# Altium integrated library Silicon Labs Audio.IntLib: 141 symbols (part 2 of 7)
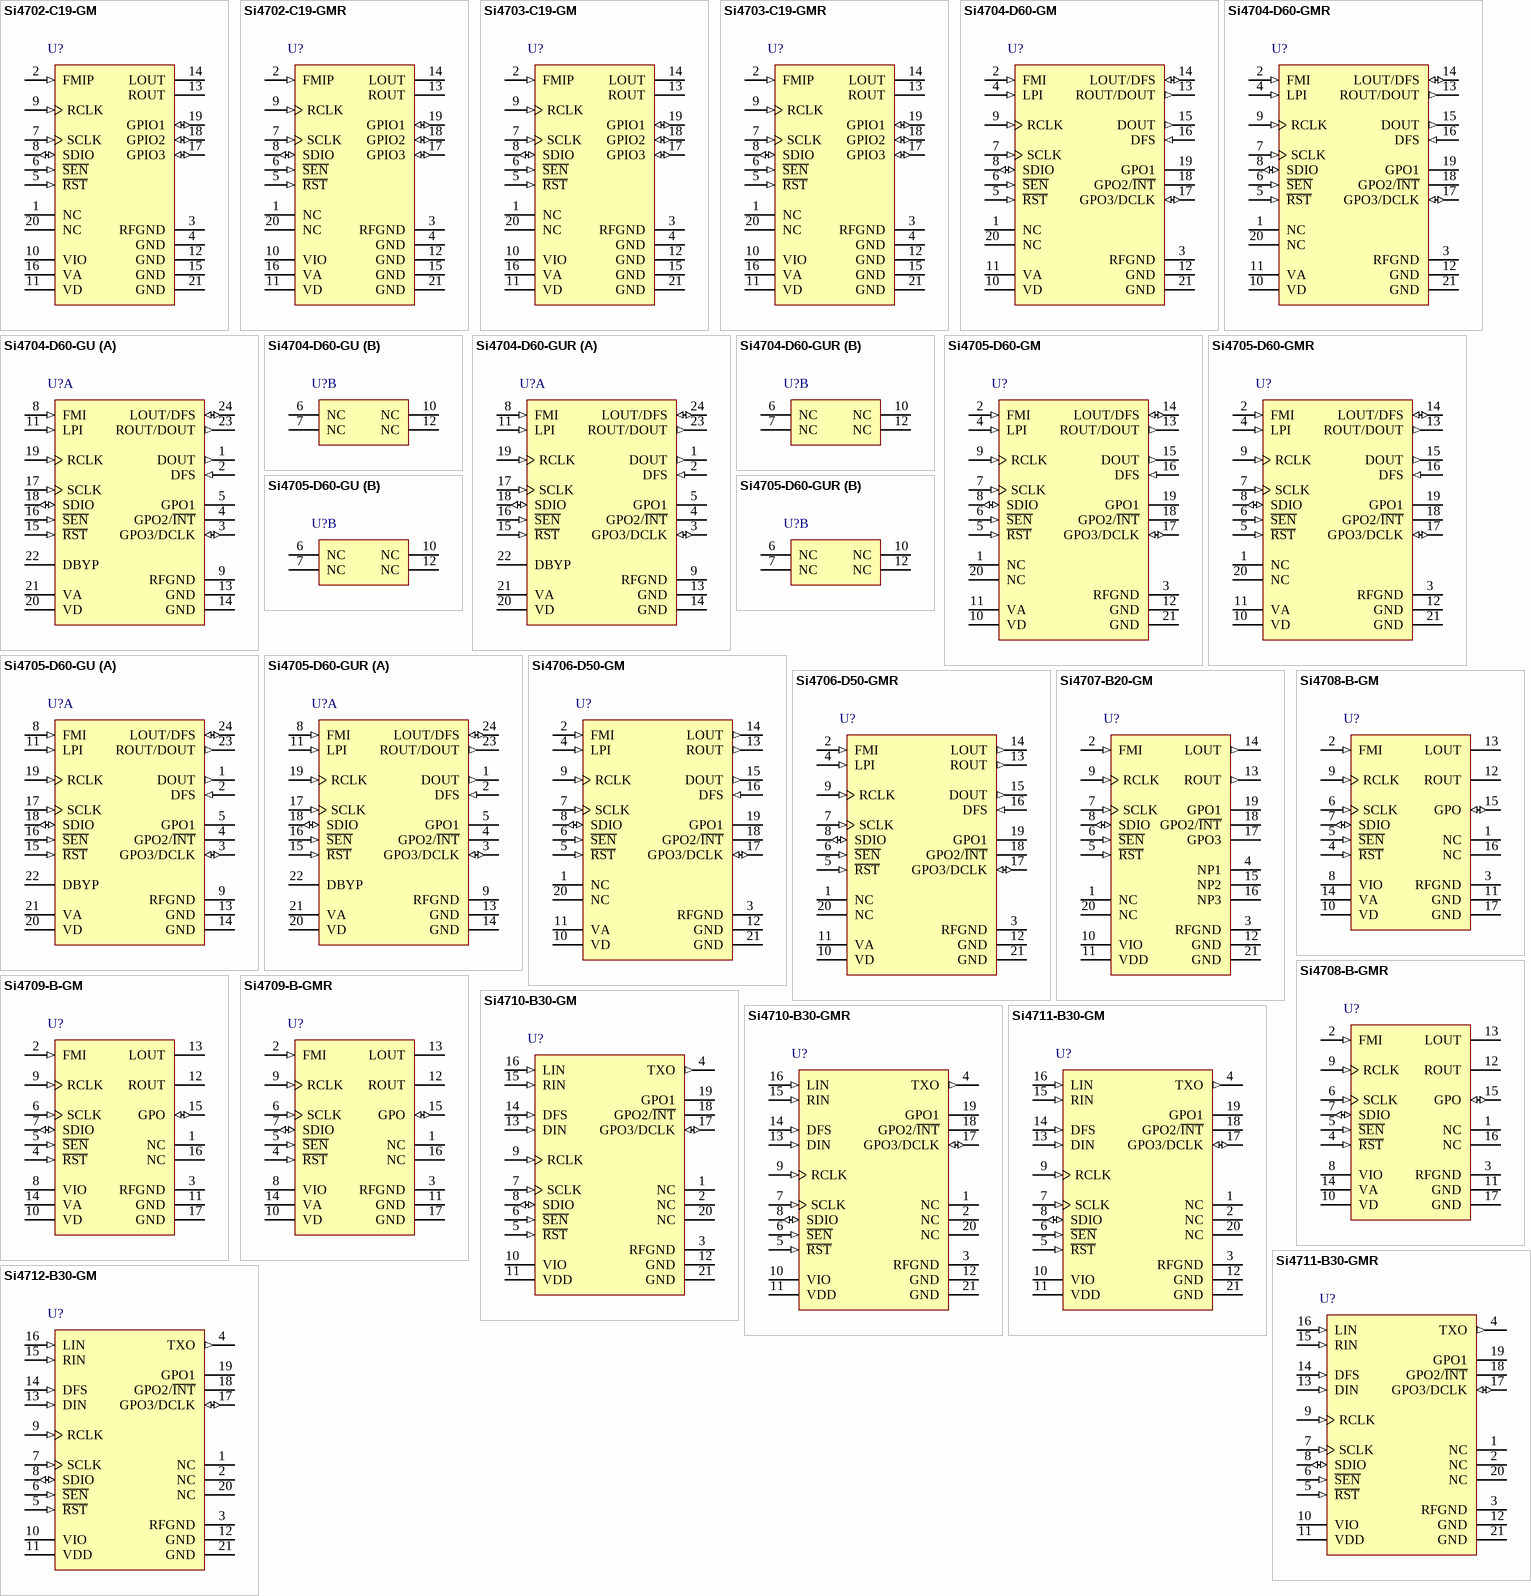
[diagram p8: symbols Si4702-C19-GM to Si4712-B30-GM]

## Si4712-B30-GM
designator U?
FM Radio Transmitter with Receive Power Scan, -20 to 85 degC, 20-pin QFN, Tray; Manufacturer: Silicon Labs; PartNumber: Si4712-B30-GM; RDS Support: FALSE; Sub-Family: FM Transmitters; PackageReference: QFN-20; PackageDescription: 20-Pin Quad-Flat No-Leads Package, Body 3 x 3 mm, Pitch 0.5 mm; Supplier 1: Digi-Key; Supplier Part Number 1: SI4712-B30-GM-ND; Supplier 2: Mouser; Supplier Part Number 2: 634-SI4712-B30-GM; Packing: Tray; Mounting Technology: Surface Mount; Code_IPC: J-STD-020; ComponentLink1Description: Manufacturer URL; ComponentLink1URL: http://www.silabs.com/; ComponentLink2Description: Datasheet; ComponentLink2URL: http://www.silabs.com/Support Documents/TechnicalDocs/Si4712-13-short.pdf; ComponentLink3Description: Package Specification; ComponentLink3URL: http://www.silabs.com/Support%20Documents/TechnicalDocs/C8051F99x.pdf
footprint SLAB-QFN-20-1700x1700TP_V (QFN, 20-Leads, Body 3x3mm, Pitch 0.5mm, Thermal Pad 1.7x1.7mm)
pins: 1 NC "No connect. Leave floating.", 2 NC "No connect. Leave floating.", 3 RFGND (power) "RF ground. Connect to ground plane on PCB.", 4 TXO (out) "FM transmit output connection to transmit antenna", 5 ~{RST} (in) "Device reset (active low) input.", 6 ~{SEN} (in) "Serial enable input (active low).", 7 SCLK (in) "Serial clock input.", 8 SDIO (io) "Serial data input/output.", 9 RCLK (in) "External reference oscillator input.", 10 VIO (power) "I/O supply voltage.", 11 VDD (power) "Supply voltage. May be connected directly to battery.", 12 GND (power) "Ground. Connect to ground plane on PCB.", 13 DIN (in) "Digital input data.", 14 DFS (in) "Digital frame synchronization input.", 15 RIN (in) "Right audio line input.", 16 LIN (in) "Left audio line input.", 17 GPO3/DCLK (io) "General purpose output/digital bit synchronous clock input.", 18 GPO2/~{INT} (hiz) "General purpose output/interrupt request.", 19 GPO1 (hiz) "General purpose output.", 20 NC "No connect. Leave floating.", 21 GND (power) "Ground. Connect to ground plane on PCB."

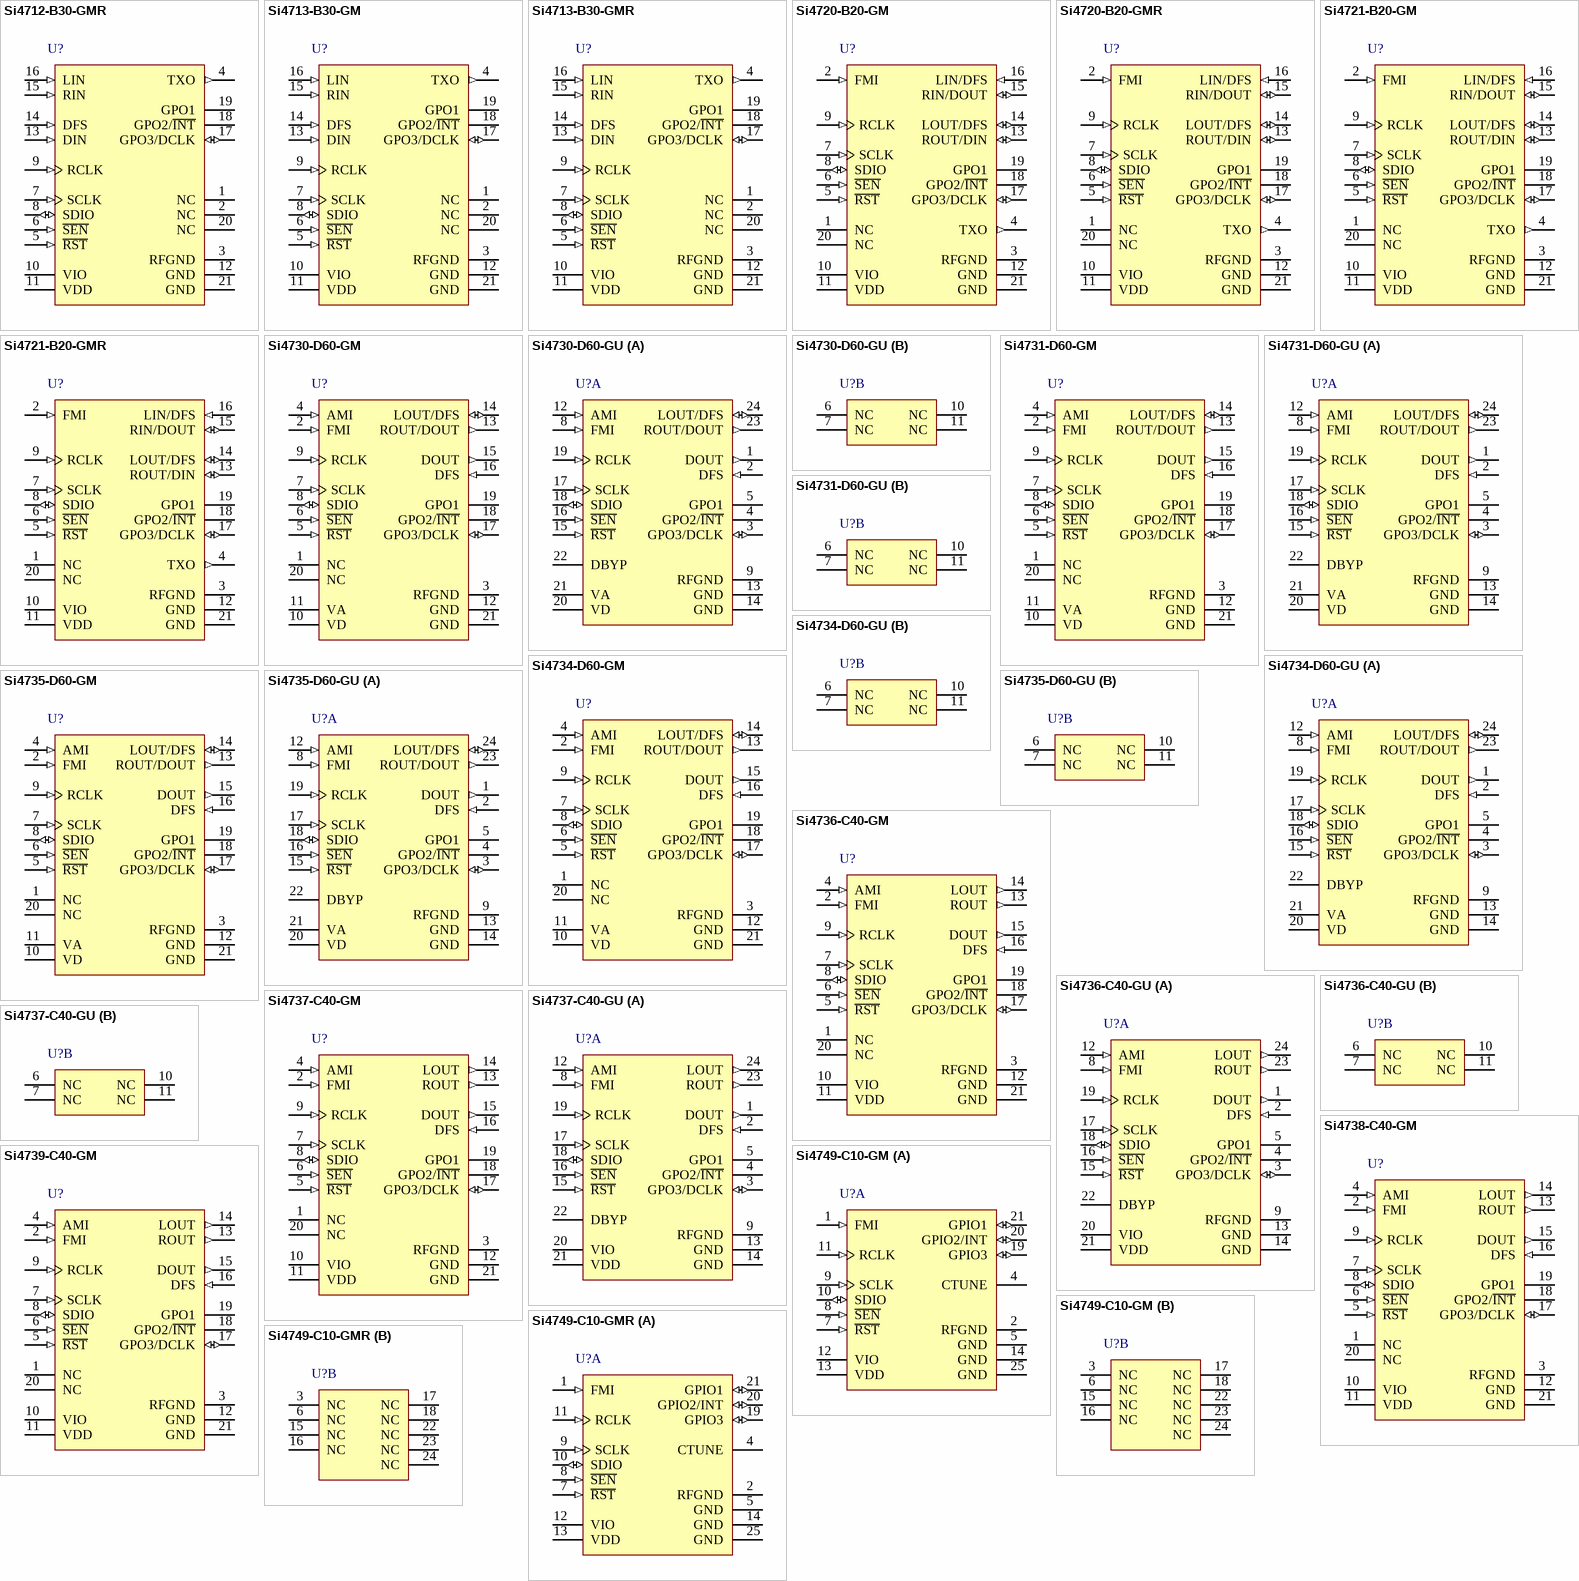
[diagram p1: symbols Si4712-B30-GMR to Si4749-C10-GMR]

## Si4712-B30-GMR
designator U?
FM Radio Transmitter with Receive Power Scan, -20 to 85 degC, 20-pin QFN, Tape and Reel; Manufacturer: Silicon Labs; PartNumber: Si4712-B30-GMR; RDS Support: FALSE; Sub-Family: FM Transmitters; PackageReference: QFN-20; PackageDescription: 20-Pin Quad-Flat No-Leads Package, Body 3 x 3 mm, Pitch 0.5 mm; Supplier 1: Digi-Key; Supplier Part Number 1: SI4712-B30-GMR-ND; Supplier 2: Mouser; Supplier Part Number 2: 634-SI4712-B30-GMR; Packing: Tape and Reel; Mounting Technology: Surface Mount; Code_IPC: J-STD-020; ComponentLink1Description: Manufacturer URL; ComponentLink1URL: http://www.silabs.com/; ComponentLink2Description: Datasheet; ComponentLink2URL: http://www.silabs.com/Support Documents/TechnicalDocs/Si4712-13-short.pdf; ComponentLink3Description: Package Specification; ComponentLink3URL: http://www.silabs.com/Support%20Documents/TechnicalDocs/C8051F99x.pdf
footprint SLAB-QFN-20-1700x1700TP_V (QFN, 20-Leads, Body 3x3mm, Pitch 0.5mm, Thermal Pad 1.7x1.7mm)
pins: 1 NC "No connect. Leave floating.", 2 NC "No connect. Leave floating.", 3 RFGND (power) "RF ground. Connect to ground plane on PCB.", 4 TXO (out) "FM transmit output connection to transmit antenna", 5 ~{RST} (in) "Device reset (active low) input.", 6 ~{SEN} (in) "Serial enable input (active low).", 7 SCLK (in) "Serial clock input.", 8 SDIO (io) "Serial data input/output.", 9 RCLK (in) "External reference oscillator input.", 10 VIO (power) "I/O supply voltage.", 11 VDD (power) "Supply voltage. May be connected directly to battery.", 12 GND (power) "Ground. Connect to ground plane on PCB.", 13 DIN (in) "Digital input data.", 14 DFS (in) "Digital frame synchronization input.", 15 RIN (in) "Right audio line input.", 16 LIN (in) "Left audio line input.", 17 GPO3/DCLK (io) "General purpose output/digital bit synchronous clock input.", 18 GPO2/~{INT} (hiz) "General purpose output/interrupt request.", 19 GPO1 (hiz) "General purpose output.", 20 NC "No connect. Leave floating.", 21 GND (power) "Ground. Connect to ground plane on PCB."

## Si4713-B30-GM
designator U?
FM Radio Transmitter with Receive Power Scan, -20 to 85 degC, 20-pin QFN, Tray; Manufacturer: Silicon Labs; PartNumber: Si4713-B30-GM; RDS Support: TRUE; Sub-Family: FM Transmitters; PackageReference: QFN-20; PackageDescription: 20-Pin Quad-Flat No-Leads Package, Body 3 x 3 mm, Pitch 0.5 mm; Supplier 1: Digi-Key; Supplier Part Number 1: 336-1742-ND; Supplier 2: Mouser; Supplier Part Number 2: 634-SI4713-B30-GM; Packing: Tray; Mounting Technology: Surface Mount; Code_IPC: J-STD-020; ComponentLink1Description: Manufacturer URL; ComponentLink1URL: http://www.silabs.com/; ComponentLink2Description: Datasheet; ComponentLink2URL: http://www.silabs.com/Support Documents/TechnicalDocs/Si4712-13-short.pdf; ComponentLink3Description: Package Specification; ComponentLink3URL: http://www.silabs.com/Support%20Documents/TechnicalDocs/C8051F99x.pdf
footprint SLAB-QFN-20-1700x1700TP_V (QFN, 20-Leads, Body 3x3mm, Pitch 0.5mm, Thermal Pad 1.7x1.7mm)
pins: 1 NC "No connect. Leave floating.", 2 NC "No connect. Leave floating.", 3 RFGND (power) "RF ground. Connect to ground plane on PCB.", 4 TXO (out) "FM transmit output connection to transmit antenna", 5 ~{RST} (in) "Device reset (active low) input.", 6 ~{SEN} (in) "Serial enable input (active low).", 7 SCLK (in) "Serial clock input.", 8 SDIO (io) "Serial data input/output.", 9 RCLK (in) "External reference oscillator input.", 10 VIO (power) "I/O supply voltage.", 11 VDD (power) "Supply voltage. May be connected directly to battery.", 12 GND (power) "Ground. Connect to ground plane on PCB.", 13 DIN (in) "Digital input data.", 14 DFS (in) "Digital frame synchronization input.", 15 RIN (in) "Right audio line input.", 16 LIN (in) "Left audio line input.", 17 GPO3/DCLK (io) "General purpose output/digital bit synchronous clock input.", 18 GPO2/~{INT} (hiz) "General purpose output/interrupt request.", 19 GPO1 (hiz) "General purpose output.", 20 NC "No connect. Leave floating.", 21 GND (power) "Ground. Connect to ground plane on PCB."

## Si4713-B30-GMR
designator U?
FM Radio Transmitter with Receive Power Scan, -20 to 85 degC, 20-pin QFN, Tape and Reel; Manufacturer: Silicon Labs; PartNumber: Si4713-B30-GMR; RDS Support: TRUE; Sub-Family: FM Transmitters; PackageReference: QFN-20; PackageDescription: 20-Pin Quad-Flat No-Leads Package, Body 3 x 3 mm, Pitch 0.5 mm; Supplier 1: Digi-Key; Supplier Part Number 1: SI4713-B30-GMR-ND; Supplier 2: Mouser; Supplier Part Number 2: 634-SI4713-B30-GMR; Packing: Tape and Reel; Mounting Technology: Surface Mount; Code_IPC: J-STD-020; ComponentLink1Description: Manufacturer URL; ComponentLink1URL: http://www.silabs.com/; ComponentLink2Description: Datasheet; ComponentLink2URL: http://www.silabs.com/Support Documents/TechnicalDocs/Si4712-13-short.pdf; ComponentLink3Description: Package Specification; ComponentLink3URL: http://www.silabs.com/Support%20Documents/TechnicalDocs/C8051F99x.pdf
footprint SLAB-QFN-20-1700x1700TP_V (QFN, 20-Leads, Body 3x3mm, Pitch 0.5mm, Thermal Pad 1.7x1.7mm)
pins: 1 NC "No connect. Leave floating.", 2 NC "No connect. Leave floating.", 3 RFGND (power) "RF ground. Connect to ground plane on PCB.", 4 TXO (out) "FM transmit output connection to transmit antenna", 5 ~{RST} (in) "Device reset (active low) input.", 6 ~{SEN} (in) "Serial enable input (active low).", 7 SCLK (in) "Serial clock input.", 8 SDIO (io) "Serial data input/output.", 9 RCLK (in) "External reference oscillator input.", 10 VIO (power) "I/O supply voltage.", 11 VDD (power) "Supply voltage. May be connected directly to battery.", 12 GND (power) "Ground. Connect to ground plane on PCB.", 13 DIN (in) "Digital input data.", 14 DFS (in) "Digital frame synchronization input.", 15 RIN (in) "Right audio line input.", 16 LIN (in) "Left audio line input.", 17 GPO3/DCLK (io) "General purpose output/digital bit synchronous clock input.", 18 GPO2/~{INT} (hiz) "General purpose output/interrupt request.", 19 GPO1 (hiz) "General purpose output.", 20 NC "No connect. Leave floating.", 21 GND (power) "Ground. Connect to ground plane on PCB."

## Si4720-B20-GM
designator U?
Broadcast FM Radio Transceiver for Portable Applications, 20-pin QFN, Tray; Manufacturer: Silicon Labs; PartNumber: Si4720-B20-GM; RDS Support: FALSE; Sub-Family: FM Transceivers; PackageReference: QFN-20; PackageDescription: 20-Pin Quad-Flat No-Leads Package, Body 3 x 3 mm, Pitch 0.5 mm; Supplier 1: Digi-Key; Supplier Part Number 1: SI4720-B20-GM-ND; Supplier 2: Mouser; Supplier Part Number 2: 634-SI4720-B20-GM; Packing: Tray; Mounting Technology: Surface Mount; Code_IPC: J-STD-020; ComponentLink1Description: Manufacturer URL; ComponentLink1URL: http://www.silabs.com/; ComponentLink2Description: Datasheet; ComponentLink2URL: http://www.silabs.com/Support%20Documents/TechnicalDocs/Si4720-21-short.pdf; ComponentLink3Description: Package Specification; ComponentLink3URL: http://www.silabs.com/Support%20Documents/TechnicalDocs/C8051F99x.pdf
footprint SLAB-QFN-20-1700x1700TP_V (QFN, 20-Leads, Body 3x3mm, Pitch 0.5mm, Thermal Pad 1.7x1.7mm)
pins: 1 NC "No connect. Leave floating.", 2 FMI (in) "FM RF input.", 3 RFGND (power) "RF ground. Connect to ground plane on PCB.", 4 TXO (out) "FM transmit output connection to transmit antenna.", 5 ~{RST} (in) "Device reset (active low) input.", 6 ~{SEN} (in) "Serial enable input (active low).", 7 SCLK (in) "Serial clock input.", 8 SDIO (io) "Serial data input/output.", 9 RCLK (in) "External reference oscillator input.", 10 VIO (power) "I/O supply voltage.", 11 VDD (power) "Supply voltage. May be connected directly to battery.", 12 GND (power) "Ground. Connect to ground plane on PCB.", 13 ROUT/DIN (io) "Right audio line output-digital input data.", 14 LOUT/DFS (io) "Left audio line output-digital frame synchronization.", 15 RIN/DOUT (io) "Right audio line input-digital output data.", 16 LIN/DFS (in) "Left audio line input-digital frame synchronization.", 17 GPO3/DCLK (io) "General purpose output-digital bit synchronous clock.", 18 GPO2/~{INT} (hiz) "General purpose output-interrupt request.", 19 GPO1 (hiz) "General purpose output.", 20 NC "No connect. Leave floating.", 21 GND (power) "Ground. Connect to ground plane on PCB."

## Si4720-B20-GMR
designator U?
Broadcast FM Radio Transceiver for Portable Applications, 20-pin QFN, Tape and Reel; Manufacturer: Silicon Labs; PartNumber: Si4720-B20-GMR; RDS Support: FALSE; Sub-Family: FM Transceivers; PackageReference: QFN-20; PackageDescription: 20-Pin Quad-Flat No-Leads Package, Body 3 x 3 mm, Pitch 0.5 mm; Supplier 1: Digi-Key; Supplier Part Number 1: SI4720-B20-GMR-ND; Supplier 2: Mouser; Supplier Part Number 2: 634-SI4720-B20-GMR; Packing: Tape and Reel; Mounting Technology: Surface Mount; Code_IPC: J-STD-020; ComponentLink1Description: Manufacturer URL; ComponentLink1URL: http://www.silabs.com/; ComponentLink2Description: Datasheet; ComponentLink2URL: http://www.silabs.com/Support%20Documents/TechnicalDocs/Si4720-21-short.pdf; ComponentLink3Description: Package Specification; ComponentLink3URL: http://www.silabs.com/Support%20Documents/TechnicalDocs/C8051F99x.pdf
footprint SLAB-QFN-20-1700x1700TP_V (QFN, 20-Leads, Body 3x3mm, Pitch 0.5mm, Thermal Pad 1.7x1.7mm)
pins: 1 NC "No connect. Leave floating.", 2 FMI (in) "FM RF input.", 3 RFGND (power) "RF ground. Connect to ground plane on PCB.", 4 TXO (out) "FM transmit output connection to transmit antenna.", 5 ~{RST} (in) "Device reset (active low) input.", 6 ~{SEN} (in) "Serial enable input (active low).", 7 SCLK (in) "Serial clock input.", 8 SDIO (io) "Serial data input/output.", 9 RCLK (in) "External reference oscillator input.", 10 VIO (power) "I/O supply voltage.", 11 VDD (power) "Supply voltage. May be connected directly to battery.", 12 GND (power) "Ground. Connect to ground plane on PCB.", 13 ROUT/DIN (io) "Right audio line output-digital input data.", 14 LOUT/DFS (io) "Left audio line output-digital frame synchronization.", 15 RIN/DOUT (io) "Right audio line input-digital output data.", 16 LIN/DFS (in) "Left audio line input-digital frame synchronization.", 17 GPO3/DCLK (io) "General purpose output-digital bit synchronous clock.", 18 GPO2/~{INT} (hiz) "General purpose output-interrupt request.", 19 GPO1 (hiz) "General purpose output.", 20 NC "No connect. Leave floating.", 21 GND (power) "Ground. Connect to ground plane on PCB."

## Si4721-B20-GM
designator U?
Broadcast FM Radio Transceiver for Portable Applications, 20-pin QFN, Tray; Manufacturer: Silicon Labs; PartNumber: Si4721-B20-GM; RDS Support: TRUE; Sub-Family: FM Transceivers; PackageReference: QFN-20; PackageDescription: 20-Pin Quad-Flat No-Leads Package, Body 3 x 3 mm, Pitch 0.5 mm; Supplier 1: Digi-Key; Supplier Part Number 1: SI4721-B20-GM-ND; Supplier 2: Mouser; Supplier Part Number 2: 634-SI4721-B20-GM; Packing: Tray; Mounting Technology: Surface Mount; Code_IPC: J-STD-020; ComponentLink1Description: Manufacturer URL; ComponentLink1URL: http://www.silabs.com/; ComponentLink2Description: Datasheet; ComponentLink2URL: http://www.silabs.com/Support%20Documents/TechnicalDocs/Si4720-21-short.pdf; ComponentLink3Description: Package Specification; ComponentLink3URL: http://www.silabs.com/Support%20Documents/TechnicalDocs/C8051F99x.pdf
footprint SLAB-QFN-20-1700x1700TP_V (QFN, 20-Leads, Body 3x3mm, Pitch 0.5mm, Thermal Pad 1.7x1.7mm)
pins: 1 NC "No connect. Leave floating.", 2 FMI (in) "FM RF input.", 3 RFGND (power) "RF ground. Connect to ground plane on PCB.", 4 TXO (out) "FM transmit output connection to transmit antenna.", 5 ~{RST} (in) "Device reset (active low) input.", 6 ~{SEN} (in) "Serial enable input (active low).", 7 SCLK (in) "Serial clock input.", 8 SDIO (io) "Serial data input/output.", 9 RCLK (in) "External reference oscillator input.", 10 VIO (power) "I/O supply voltage.", 11 VDD (power) "Supply voltage. May be connected directly to battery.", 12 GND (power) "Ground. Connect to ground plane on PCB.", 13 ROUT/DIN (io) "Right audio line output-digital input data.", 14 LOUT/DFS (io) "Left audio line output-digital frame synchronization.", 15 RIN/DOUT (io) "Right audio line input-digital output data.", 16 LIN/DFS (in) "Left audio line input-digital frame synchronization.", 17 GPO3/DCLK (io) "General purpose output-digital bit synchronous clock.", 18 GPO2/~{INT} (hiz) "General purpose output-interrupt request.", 19 GPO1 (hiz) "General purpose output.", 20 NC "No connect. Leave floating.", 21 GND (power) "Ground. Connect to ground plane on PCB."

## Si4721-B20-GMR
designator U?
Broadcast FM Radio Transceiver for Portable Applications, 20-pin QFN, Tape and Reel; Manufacturer: Silicon Labs; PartNumber: Si4721-B20-GMR; RDS Support: TRUE; Sub-Family: FM Transceivers; PackageReference: QFN-20; PackageDescription: 20-Pin Quad-Flat No-Leads Package, Body 3 x 3 mm, Pitch 0.5 mm; Supplier 1: Digi-Key; Supplier Part Number 1: SI4721-B20-GMR-ND; Supplier 2: Mouser; Supplier Part Number 2: 634-SI4721-B20-GMR; Packing: Tape and Reel; Mounting Technology: Surface Mount; Code_IPC: J-STD-020; ComponentLink1Description: Manufacturer URL; ComponentLink1URL: http://www.silabs.com/; ComponentLink2Description: Datasheet; ComponentLink2URL: http://www.silabs.com/Support%20Documents/TechnicalDocs/Si4720-21-short.pdf; ComponentLink3Description: Package Specification; ComponentLink3URL: http://www.silabs.com/Support%20Documents/TechnicalDocs/C8051F99x.pdf
footprint SLAB-QFN-20-1700x1700TP_V (QFN, 20-Leads, Body 3x3mm, Pitch 0.5mm, Thermal Pad 1.7x1.7mm)
pins: 1 NC "No connect. Leave floating.", 2 FMI (in) "FM RF input.", 3 RFGND (power) "RF ground. Connect to ground plane on PCB.", 4 TXO (out) "FM transmit output connection to transmit antenna.", 5 ~{RST} (in) "Device reset (active low) input.", 6 ~{SEN} (in) "Serial enable input (active low).", 7 SCLK (in) "Serial clock input.", 8 SDIO (io) "Serial data input/output.", 9 RCLK (in) "External reference oscillator input.", 10 VIO (power) "I/O supply voltage.", 11 VDD (power) "Supply voltage. May be connected directly to battery.", 12 GND (power) "Ground. Connect to ground plane on PCB.", 13 ROUT/DIN (io) "Right audio line output-digital input data.", 14 LOUT/DFS (io) "Left audio line output-digital frame synchronization.", 15 RIN/DOUT (io) "Right audio line input-digital output data.", 16 LIN/DFS (in) "Left audio line input-digital frame synchronization.", 17 GPO3/DCLK (io) "General purpose output-digital bit synchronous clock.", 18 GPO2/~{INT} (hiz) "General purpose output-interrupt request.", 19 GPO1 (hiz) "General purpose output.", 20 NC "No connect. Leave floating.", 21 GND (power) "Ground. Connect to ground plane on PCB."

## Si4730-D60-GM
designator U?
Broadcast AM / FM / SW / LW Radio Receiver, -20 to 85 degC, 20-pin QFN, Tray; Manufacturer: Silicon Labs; PartNumber: Si4730-D60-GM; RDS Support: FALSE; Sub-Family: AM/FM, Shortwave, Longwave, Weather Band Receivers; DatasheetVersion: Rev. 1.2; PackageReference: QFN-20; PackageDescription: 20-Pin Quad-Flat No-Leads Package, Body 3 x 3 mm, Pitch 0.5 mm; Supplier 1: Digi-Key; Supplier Part Number 1: 336-2561-ND; Supplier 2: Mouser; Supplier Part Number 2: N/A; Mounting Technology: Surface Mount; Code_IPC: J-STD-020; ComponentLink1Description: Manufacturer URL; ComponentLink1URL: http://www.silabs.com/; ComponentLink2Description: Datasheet; ComponentLink2URL: http://www.silabs.com/Support Documents/TechnicalDocs/Si4730-31-34-35-D60.pdf; ComponentLink3Description: Package Specification; ComponentLink3URL: http://www.silabs.com/Support%20Documents/TechnicalDocs/C8051F99x.pdf
footprint SLAB-QFN-20-1700x1700TP_V (QFN, 20-Leads, Body 3x3mm, Pitch 0.5mm, Thermal Pad 1.7x1.7mm)
pins: 1 NC "No connect. Leave floating.", 2 FMI (in) "FM RF inputs. FMI should be connected to the antenna trace.", 3 RFGND (power) "RF ground. Connect to ground plane on PCB.", 4 AMI (in) "AM RF input. AMI should be connected to the AM antenna.", 5 ~{RST} (in) "Device reset input (active low).", 6 ~{SEN} (in) "Serial enable input (active low).", 7 SCLK (in) "Serial clock input.", 8 SDIO (io) "Serial data input/output.", 9 RCLK (in) "External reference oscillator input.", 10 VD (power) "Digital and I/O supply voltage.", 11 VA (power) "Analog supply voltage. May be connected directly to battery.", 12 GND (power) "Ground. Connect to ground plane on PCB.", 13 ROUT/DOUT (out) "Right audio line output for analog output mode.", 14 LOUT/DFS (io) "Left audio line output for analog output mode.", 15 DOUT (out) "Digital output data for digital output mode.", 16 DFS (in) "Digital frame synchronization input for digital output mode.", 17 GPO3/DCLK (io) "General purpose output, crystal oscillator, or digital bit synchronous clock input in digital output mode.", 18 GPO2/~{INT} (hiz) "General purpose output or interrupt pin.", 19 GPO1 (hiz) "General purpose output.", 20 NC "No connect. Leave floating.", 21 GND (power) "Ground. Connect to ground plane on PCB."

## Si4730-D60-GU
designator U?
Broadcast AM / FM / SW / LW Radio Receiver, -20 to 85 degC, 24-pin SOP, Tray; Manufacturer: Silicon Labs; PartNumber: Si4730-D60-GU; RDS Support: FALSE; Sub-Family: AM/FM, Shortwave, Longwave, Weather Band Receivers; DatasheetVersion: Rev. 1.4; PackageReference: SSOP-24; PackageDescription: 24-Pin Shrink Small-Outline Package, Body 8.65 x 3.9 mm, Pitch 0.635 mm; Supplier 1: Digi-Key; Supplier Part Number 1: 336-2562-ND; Supplier 2: Mouser; Supplier Part Number 2: N/A; Mounting Technology: Surface Mount; Code_JEDEC: MO-137; Code_IPC: J-STD-020; ComponentLink1Description: Manufacturer URL; ComponentLink1URL: http://www.silabs.com/; ComponentLink2Description: Datasheet; ComponentLink2URL: http://www.silabs.com/Support%20Documents/TechnicalDocs/Not-Rec-for-New-Designs-Si4708-09-B.pdf; ComponentLink3Description: Package Specification; ComponentLink3URL: http://www.silabs.com/Support%20Documents/TechnicalDocs/Si4704-05-D60.pdf
footprint SLAB-SSOP-24_N (SOP, 24-Leads, Body 8.7x3.9mm, Pitch 0.635mm, IPC Medium Density)
footprint SLAB-SSOP-24_L (SOP, 24-Leads, Body 8.7x3.9mm, Pitch 0.635mm, IPC High Density)
footprint SLAB-SSOP-24_M (SOP, 24-Leads, Body 8.7x3.9mm, Pitch 0.635mm, IPC Low Density)
part A pins: 1 DOUT (out) "Digital output data for digital output mode.", 2 DFS (in) "Digital frame synchronization input for digital output mode.", 3 GPO3/DCLK (io) "General purpose output, crystal oscillator, or digital bit synchronous clock input in digital output mode.", 4 GPO2/~{INT} (hiz) "General purpose output or interrupt pin.", 5 GPO1 (hiz) "General purpose output.", 8 FMI (in) "FM RF inputs. FMI should be connected to the antenna trace.", 9 RFGND (power) "RF ground. Connect to ground plane on PCB.", 12 AMI (in) "AM/SW/LW RF input.", 13 GND (power) "Ground. Connect to ground plane on PCB.", 14 GND (power) "Ground. Connect to ground plane on PCB.", 15 ~{RST} (in) "Device reset input (active low).", 16 ~{SEN} (in) "Serial enable input (active low).", 17 SCLK (in) "Serial clock input.", 18 SDIO (io) "Serial data input/output.", 19 RCLK (in) "External reference oscillator input.", 20 VD (power) "Digital and I/O supply voltage.", 21 VA (power) "Analog supply voltage. May be connected directly to battery.", 22 DBYP "Bypass capacitor.", 23 ROUT/DOUT (out) "Right audio line output in analog output mode.", 24 LOUT/DFS (io) "Left audio line output in analog output mode."
part B pins: 6 NC "No connect. Leave floating.", 7 NC "No connect. Leave floating.", 10 NC "Unused. Tie these pins to GND.", 11 NC "Unused. Tie these pins to GND."

## Si4731-D60-GM
designator U?
Broadcast AM / FM / SW / LW Radio Receiver, -20 to 85 degC, 20-pin QFN, Tray; Manufacturer: Silicon Labs; PartNumber: Si4731-D60-GM; RDS Support: TRUE; Sub-Family: AM/FM, Shortwave, Longwave, Weather Band Receivers; DatasheetVersion: Rev. 1.2; PackageReference: QFN-20; PackageDescription: 20-Pin Quad-Flat No-Leads Package, Body 3 x 3 mm, Pitch 0.5 mm; Supplier 1: Digi-Key; Supplier Part Number 1: SI4731-D60-GM-ND; Supplier 2: Mouser; Supplier Part Number 2: N/A; Mounting Technology: Surface Mount; Code_IPC: J-STD-020; ComponentLink1Description: Manufacturer URL; ComponentLink1URL: http://www.silabs.com/; ComponentLink2Description: Datasheet; ComponentLink2URL: http://www.silabs.com/Support Documents/TechnicalDocs/Si4730-31-34-35-D60.pdf; ComponentLink3Description: Package Specification; ComponentLink3URL: http://www.silabs.com/Support%20Documents/TechnicalDocs/C8051F99x.pdf
footprint SLAB-QFN-20-1700x1700TP_V (QFN, 20-Leads, Body 3x3mm, Pitch 0.5mm, Thermal Pad 1.7x1.7mm)
pins: 1 NC "No connect. Leave floating.", 2 FMI (in) "FM RF inputs. FMI should be connected to the antenna trace.", 3 RFGND (power) "RF ground. Connect to ground plane on PCB.", 4 AMI (in) "AM RF input. AMI should be connected to the AM antenna.", 5 ~{RST} (in) "Device reset input (active low).", 6 ~{SEN} (in) "Serial enable input (active low).", 7 SCLK (in) "Serial clock input.", 8 SDIO (io) "Serial data input/output.", 9 RCLK (in) "External reference oscillator input.", 10 VD (power) "Digital and I/O supply voltage.", 11 VA (power) "Analog supply voltage. May be connected directly to battery.", 12 GND (power) "Ground. Connect to ground plane on PCB.", 13 ROUT/DOUT (out) "Right audio line output for analog output mode.", 14 LOUT/DFS (io) "Left audio line output for analog output mode.", 15 DOUT (out) "Digital output data for digital output mode.", 16 DFS (in) "Digital frame synchronization input for digital output mode.", 17 GPO3/DCLK (io) "General purpose output, crystal oscillator, or digital bit synchronous clock input in digital output mode.", 18 GPO2/~{INT} (hiz) "General purpose output or interrupt pin.", 19 GPO1 (hiz) "General purpose output.", 20 NC "No connect. Leave floating.", 21 GND (power) "Ground. Connect to ground plane on PCB."

## Si4731-D60-GU
designator U?
Broadcast AM / FM / SW / LW Radio Receiver, -20 to 85 degC, 24-pin SOP, Tray; Manufacturer: Silicon Labs; PartNumber: Si4731-D60-GU; RDS Support: TRUE; Sub-Family: AM/FM, Shortwave, Longwave, Weather Band Receivers; DatasheetVersion: Rev. 1.4; PackageReference: SSOP-24; PackageDescription: 24-Pin Shrink Small-Outline Package, Body 8.65 x 3.9 mm, Pitch 0.635 mm; Supplier 1: Digi-Key; Supplier Part Number 1: SI4731-D60-GU-ND; Supplier 2: Mouser; Supplier Part Number 2: N/A; Mounting Technology: Surface Mount; Code_JEDEC: MO-137; Code_IPC: J-STD-020; ComponentLink1Description: Manufacturer URL; ComponentLink1URL: http://www.silabs.com/; ComponentLink2Description: Datasheet; ComponentLink2URL: http://www.silabs.com/Support%20Documents/TechnicalDocs/Not-Rec-for-New-Designs-Si4708-09-B.pdf; ComponentLink3Description: Package Specification; ComponentLink3URL: http://www.silabs.com/Support%20Documents/TechnicalDocs/Si4704-05-D60.pdf
footprint SLAB-SSOP-24_N (SOP, 24-Leads, Body 8.7x3.9mm, Pitch 0.635mm, IPC Medium Density)
footprint SLAB-SSOP-24_L (SOP, 24-Leads, Body 8.7x3.9mm, Pitch 0.635mm, IPC High Density)
footprint SLAB-SSOP-24_M (SOP, 24-Leads, Body 8.7x3.9mm, Pitch 0.635mm, IPC Low Density)
part A pins: 1 DOUT (out) "Digital output data for digital output mode.", 2 DFS (in) "Digital frame synchronization input for digital output mode.", 3 GPO3/DCLK (io) "General purpose output, crystal oscillator, or digital bit synchronous clock input in digital output mode.", 4 GPO2/~{INT} (hiz) "General purpose output or interrupt pin.", 5 GPO1 (hiz) "General purpose output.", 8 FMI (in) "FM RF inputs. FMI should be connected to the antenna trace.", 9 RFGND (power) "RF ground. Connect to ground plane on PCB.", 12 AMI (in) "AM/SW/LW RF input.", 13 GND (power) "Ground. Connect to ground plane on PCB.", 14 GND (power) "Ground. Connect to ground plane on PCB.", 15 ~{RST} (in) "Device reset input (active low).", 16 ~{SEN} (in) "Serial enable input (active low).", 17 SCLK (in) "Serial clock input.", 18 SDIO (io) "Serial data input/output.", 19 RCLK (in) "External reference oscillator input.", 20 VD (power) "Digital and I/O supply voltage.", 21 VA (power) "Analog supply voltage. May be connected directly to battery.", 22 DBYP "Bypass capacitor.", 23 ROUT/DOUT (out) "Right audio line output in analog output mode.", 24 LOUT/DFS (io) "Left audio line output in analog output mode."
part B pins: 6 NC "No connect. Leave floating.", 7 NC "No connect. Leave floating.", 10 NC "Unused. Tie these pins to GND.", 11 NC "Unused. Tie these pins to GND."

## Si4734-D60-GM
designator U?
Broadcast AM / FM / SW / LW Radio Receiver, -20 to 85 degC, 20-pin QFN, Tray; Manufacturer: Silicon Labs; PartNumber: Si4734-D60-GM; RDS Support: FALSE; Sub-Family: AM/FM, Shortwave, Longwave, Weather Band Receivers; DatasheetVersion: Rev. 1.2; PackageReference: QFN-20; PackageDescription: 20-Pin Quad-Flat No-Leads Package, Body 3 x 3 mm, Pitch 0.5 mm; Supplier 1: Digi-Key; Supplier Part Number 1: SI4734-D60-GM-ND; Mounting Technology: Surface Mount; Code_IPC: J-STD-020; ComponentLink1Description: Manufacturer URL; ComponentLink1URL: http://www.silabs.com/; ComponentLink2Description: Datasheet; ComponentLink2URL: http://www.silabs.com/Support Documents/TechnicalDocs/Si4730-31-34-35-D60.pdf; ComponentLink3Description: Package Specification; ComponentLink3URL: http://www.silabs.com/Support%20Documents/TechnicalDocs/C8051F99x.pdf
footprint SLAB-QFN-20-1700x1700TP_V (QFN, 20-Leads, Body 3x3mm, Pitch 0.5mm, Thermal Pad 1.7x1.7mm)
pins: 1 NC "No connect. Leave floating.", 2 FMI (in) "FM RF inputs. FMI should be connected to the antenna trace.", 3 RFGND (power) "RF ground. Connect to ground plane on PCB.", 4 AMI (in) "AM RF input. AMI should be connected to the AM antenna.", 5 ~{RST} (in) "Device reset input (active low).", 6 ~{SEN} (in) "Serial enable input (active low).", 7 SCLK (in) "Serial clock input.", 8 SDIO (io) "Serial data input/output.", 9 RCLK (in) "External reference oscillator input.", 10 VD (power) "Digital and I/O supply voltage.", 11 VA (power) "Analog supply voltage. May be connected directly to battery.", 12 GND (power) "Ground. Connect to ground plane on PCB.", 13 ROUT/DOUT (out) "Right audio line output for analog output mode.", 14 LOUT/DFS (io) "Left audio line output for analog output mode.", 15 DOUT (out) "Digital output data for digital output mode.", 16 DFS (in) "Digital frame synchronization input for digital output mode.", 17 GPO3/DCLK (io) "General purpose output, crystal oscillator, or digital bit synchronous clock input in digital output mode.", 18 GPO2/~{INT} (hiz) "General purpose output or interrupt pin.", 19 GPO1 (hiz) "General purpose output.", 20 NC "No connect. Leave floating.", 21 GND (power) "Ground. Connect to ground plane on PCB."

## Si4734-D60-GU
designator U?
Broadcast AM / FM / SW / LW Radio Receiver, -20 to 85 degC, 24-pin SOP, Tray; Manufacturer: Silicon Labs; PartNumber: Si4734-D60-GU; RDS Support: FALSE; Sub-Family: AM/FM, Shortwave, Longwave, Weather Band Receivers; DatasheetVersion: Rev. 1.4; PackageReference: SSOP-24; PackageDescription: 24-Pin Shrink Small-Outline Package, Body 8.65 x 3.9 mm, Pitch 0.635 mm; Supplier 1: Digi-Key; Supplier Part Number 1: SI4734-D60-GU-ND; Supplier 2: Mouser; Supplier Part Number 2: N/A; Mounting Technology: Surface Mount; Code_JEDEC: MO-137; Code_IPC: J-STD-020; ComponentLink1Description: Manufacturer URL; ComponentLink1URL: http://www.silabs.com/; ComponentLink2Description: Datasheet; ComponentLink2URL: http://www.silabs.com/Support%20Documents/TechnicalDocs/Not-Rec-for-New-Designs-Si4708-09-B.pdf; ComponentLink3Description: Package Specification; ComponentLink3URL: http://www.silabs.com/Support%20Documents/TechnicalDocs/Si4704-05-D60.pdf
footprint SLAB-SSOP-24_N (SOP, 24-Leads, Body 8.7x3.9mm, Pitch 0.635mm, IPC Medium Density)
footprint SLAB-SSOP-24_L (SOP, 24-Leads, Body 8.7x3.9mm, Pitch 0.635mm, IPC High Density)
footprint SLAB-SSOP-24_M (SOP, 24-Leads, Body 8.7x3.9mm, Pitch 0.635mm, IPC Low Density)
part A pins: 1 DOUT (out) "Digital output data for digital output mode.", 2 DFS (in) "Digital frame synchronization input for digital output mode.", 3 GPO3/DCLK (io) "General purpose output, crystal oscillator, or digital bit synchronous clock input in digital output mode.", 4 GPO2/~{INT} (hiz) "General purpose output or interrupt pin.", 5 GPO1 (hiz) "General purpose output.", 8 FMI (in) "FM RF inputs. FMI should be connected to the antenna trace.", 9 RFGND (power) "RF ground. Connect to ground plane on PCB.", 12 AMI (in) "AM/SW/LW RF input.", 13 GND (power) "Ground. Connect to ground plane on PCB.", 14 GND (power) "Ground. Connect to ground plane on PCB.", 15 ~{RST} (in) "Device reset input (active low).", 16 ~{SEN} (in) "Serial enable input (active low).", 17 SCLK (in) "Serial clock input.", 18 SDIO (io) "Serial data input/output.", 19 RCLK (in) "External reference oscillator input.", 20 VD (power) "Digital and I/O supply voltage.", 21 VA (power) "Analog supply voltage. May be connected directly to battery.", 22 DBYP "Bypass capacitor.", 23 ROUT/DOUT (out) "Right audio line output in analog output mode.", 24 LOUT/DFS (io) "Left audio line output in analog output mode."
part B pins: 6 NC "No connect. Leave floating.", 7 NC "No connect. Leave floating.", 10 NC "Unused. Tie these pins to GND.", 11 NC "Unused. Tie these pins to GND."

## Si4735-D60-GM
designator U?
Broadcast AM / FM / SW / LW Radio Receiver, -20 to 85 degC, 20-pin QFN, Tray; Manufacturer: Silicon Labs; PartNumber: Si4735-D60-GM; RDS Support: TRUE; Sub-Family: AM/FM, Shortwave, Longwave, Weather Band Receivers; DatasheetVersion: Rev. 1.2; PackageReference: QFN-20; PackageDescription: 20-Pin Quad-Flat No-Leads Package, Body 3 x 3 mm, Pitch 0.5 mm; Supplier 1: Digi-Key; Supplier Part Number 1: SI4735-D60-GM-ND; Supplier 2: Mouser; Supplier Part Number 2: N/A; Mounting Technology: Surface Mount; Code_IPC: J-STD-020; ComponentLink1Description: Manufacturer URL; ComponentLink1URL: http://www.silabs.com/; ComponentLink2Description: Datasheet; ComponentLink2URL: http://www.silabs.com/Support Documents/TechnicalDocs/Si4730-31-34-35-D60.pdf; ComponentLink3Description: Package Specification; ComponentLink3URL: http://www.silabs.com/Support%20Documents/TechnicalDocs/C8051F99x.pdf
footprint SLAB-QFN-20-1700x1700TP_V (QFN, 20-Leads, Body 3x3mm, Pitch 0.5mm, Thermal Pad 1.7x1.7mm)
pins: 1 NC "No connect. Leave floating.", 2 FMI (in) "FM RF inputs. FMI should be connected to the antenna trace.", 3 RFGND (power) "RF ground. Connect to ground plane on PCB.", 4 AMI (in) "AM RF input. AMI should be connected to the AM antenna.", 5 ~{RST} (in) "Device reset input (active low).", 6 ~{SEN} (in) "Serial enable input (active low).", 7 SCLK (in) "Serial clock input.", 8 SDIO (io) "Serial data input/output.", 9 RCLK (in) "External reference oscillator input.", 10 VD (power) "Digital and I/O supply voltage.", 11 VA (power) "Analog supply voltage. May be connected directly to battery.", 12 GND (power) "Ground. Connect to ground plane on PCB.", 13 ROUT/DOUT (out) "Right audio line output for analog output mode.", 14 LOUT/DFS (io) "Left audio line output for analog output mode.", 15 DOUT (out) "Digital output data for digital output mode.", 16 DFS (in) "Digital frame synchronization input for digital output mode.", 17 GPO3/DCLK (io) "General purpose output, crystal oscillator, or digital bit synchronous clock input in digital output mode.", 18 GPO2/~{INT} (hiz) "General purpose output or interrupt pin.", 19 GPO1 (hiz) "General purpose output.", 20 NC "No connect. Leave floating.", 21 GND (power) "Ground. Connect to ground plane on PCB."

## Si4735-D60-GU
designator U?
Broadcast AM / FM / SW / LW Radio Receiver, -20 to 85 degC, 24-pin SOP, Tray; Manufacturer: Silicon Labs; PartNumber: Si4735-D60-GU; RDS Support: TRUE; Sub-Family: AM/FM, Shortwave, Longwave, Weather Band Receivers; DatasheetVersion: Rev. 1.4; PackageReference: SSOP-24; PackageDescription: 24-Pin Shrink Small-Outline Package, Body 8.65 x 3.9 mm, Pitch 0.635 mm; Supplier 1: Digi-Key; Supplier Part Number 1: 336-2140-ND; Supplier 2: Mouser; Supplier Part Number 2: N/A; Mounting Technology: Surface Mount; Code_JEDEC: MO-137; Code_IPC: J-STD-020; ComponentLink1Description: Manufacturer URL; ComponentLink1URL: http://www.silabs.com/; ComponentLink2Description: Datasheet; ComponentLink2URL: http://www.silabs.com/Support%20Documents/TechnicalDocs/Not-Rec-for-New-Designs-Si4708-09-B.pdf; ComponentLink3Description: Package Specification; ComponentLink3URL: http://www.silabs.com/Support%20Documents/TechnicalDocs/Si4704-05-D60.pdf
footprint SLAB-SSOP-24_N (SOP, 24-Leads, Body 8.7x3.9mm, Pitch 0.635mm, IPC Medium Density)
footprint SLAB-SSOP-24_L (SOP, 24-Leads, Body 8.7x3.9mm, Pitch 0.635mm, IPC High Density)
footprint SLAB-SSOP-24_M (SOP, 24-Leads, Body 8.7x3.9mm, Pitch 0.635mm, IPC Low Density)
part A pins: 1 DOUT (out) "Digital output data for digital output mode.", 2 DFS (in) "Digital frame synchronization input for digital output mode.", 3 GPO3/DCLK (io) "General purpose output, crystal oscillator, or digital bit synchronous clock input in digital output mode.", 4 GPO2/~{INT} (hiz) "General purpose output or interrupt pin.", 5 GPO1 (hiz) "General purpose output.", 8 FMI (in) "FM RF inputs. FMI should be connected to the antenna trace.", 9 RFGND (power) "RF ground. Connect to ground plane on PCB.", 12 AMI (in) "AM/SW/LW RF input.", 13 GND (power) "Ground. Connect to ground plane on PCB.", 14 GND (power) "Ground. Connect to ground plane on PCB.", 15 ~{RST} (in) "Device reset input (active low).", 16 ~{SEN} (in) "Serial enable input (active low).", 17 SCLK (in) "Serial clock input.", 18 SDIO (io) "Serial data input/output.", 19 RCLK (in) "External reference oscillator input.", 20 VD (power) "Digital and I/O supply voltage.", 21 VA (power) "Analog supply voltage. May be connected directly to battery.", 22 DBYP "Bypass capacitor.", 23 ROUT/DOUT (out) "Right audio line output in analog output mode.", 24 LOUT/DFS (io) "Left audio line output in analog output mode."
part B pins: 6 NC "No connect. Leave floating.", 7 NC "No connect. Leave floating.", 10 NC "Unused. Tie these pins to GND.", 11 NC "Unused. Tie these pins to GND."

## Si4736-C40-GM
designator U?
Broadcast AM / FM Radio Receiver, -20 to 85 degC, 20-pin QFN, Tray; Manufacturer: Silicon Labs; PartNumber: Si4736-C40-GM; RDS Support: FALSE; Sub-Family: AM/FM, Shortwave, Longwave, Weather Band Receivers; DatasheetVersion: Rev. 1.0; PackageReference: QFN-20; PackageDescription: 20-Pin Quad-Flat No-Leads Package, Body 3 x 3 mm, Pitch 0.5 mm; Supplier 1: Digi-Key; Supplier Part Number 1: SI4736-C40-GM-ND; Supplier 2: Mouser; Supplier Part Number 2: 634-SI4736-C40-GM; Mounting Technology: Surface Mount; Code_IPC: J-STD-020; ComponentLink1Description: Manufacturer URL; ComponentLink1URL: http://www.silabs.com/; ComponentLink2Description: Datasheet; ComponentLink2URL: http://www.silabs.com/Support Documents/TechnicalDocs/Si4736-37-38-39-C40.pdf; ComponentLink3Description: Package Specification; ComponentLink3URL: http://www.silabs.com/Support%20Documents/TechnicalDocs/C8051F99x.pdf
footprint SLAB-QFN-20-1700x1700TP_V (QFN, 20-Leads, Body 3x3mm, Pitch 0.5mm, Thermal Pad 1.7x1.7mm)
pins: 1 NC "No Connect. Leave floating.", 2 FMI (in) "FM/WB RF inputs. FMI should be connected to the antenna trace.", 3 RFGND (power) "RF ground. Connect to ground plane on PCB.", 4 AMI (in) "AM RF input. AMI should be connected to the AM antenna.", 5 ~{RST} (in) "Device reset (active low) input.", 6 ~{SEN} (in) "Serial enable input (active low).", 7 SCLK (in) "Serial clock input.", 8 SDIO (io) "Serial data input/output.", 9 RCLK (in) "External reference oscillator input.", 10 VIO (power) "I/O supply voltage.", 11 VDD (power) "Supply voltage. May be connected directly to battery.", 12 GND (power) "Ground. Connect to ground plane on PCB.", 13 ROUT (out) "Right audio line output in analog output mode.", 14 LOUT (out) "Left audio line output in analog output mode.", 15 DOUT (out) "Digital output data in digital output mode.", 16 DFS (in) "Digital frame synchronization input in digital output mode.", 17 GPO3/DCLK (io) "General purpose output, crystal oscillator, or digital bit synchronous clock input in digital output mode.", 18 GPO2/~{INT} (hiz) "General purpose output or interrupt pin.", 19 GPO1 (hiz) "General purpose output.", 20 NC "No Connect. Leave floating.", 21 GND (power) "Ground. Connect to ground plane on PCB."

## Si4736-C40-GU
designator U?
Broadcast AM / FM Radio Receiver, -20 to 85 degC, 24-pin SOP, Tray; Manufacturer: Silicon Labs; PartNumber: Si4736-C40-GU; RDS Support: FALSE; Sub-Family: AM/FM, Shortwave, Longwave, Weather Band Receivers; DatasheetVersion: Rev. 1.0; PackageReference: SSOP-24; PackageDescription: 24-Pin Shrink Small-Outline Package, Body 8.65 x 3.9 mm, Pitch 0.635 mm; Supplier 1: Digi-Key; Supplier Part Number 1: SI4736-C40-GU-ND; Supplier 2: Mouser; Supplier Part Number 2: 634-SI4736-C40-GU; Mounting Technology: Surface Mount; Code_JEDEC: MO-137; Code_IPC: J-STD-020; ComponentLink1Description: Manufacturer URL; ComponentLink1URL: http://www.silabs.com/; ComponentLink2Description: Datasheet; ComponentLink2URL: http://www.silabs.com/Support%20Documents/TechnicalDocs/Si4736-37-38-39-C40.pdf; ComponentLink3Description: Package Specification; ComponentLink3URL: http://www.silabs.com/Support%20Documents/TechnicalDocs/Si4704-05-D60.pdf
footprint SLAB-SSOP-24_N (SOP, 24-Leads, Body 8.7x3.9mm, Pitch 0.635mm, IPC Medium Density)
footprint SLAB-SSOP-24_L (SOP, 24-Leads, Body 8.7x3.9mm, Pitch 0.635mm, IPC High Density)
footprint SLAB-SSOP-24_M (SOP, 24-Leads, Body 8.7x3.9mm, Pitch 0.635mm, IPC Low Density)
part A pins: 1 DOUT (out) "Digital output data in digital output mode.", 2 DFS (in) "Digital frame synchronization input in digital output mode.", 3 GPO3/DCLK (io) "General purpose output, crystal oscillator, or digital bit synchronous clock input in digital output mode.", 4 GPO2/~{INT} (hiz) "General purpose output or interrupt pin.", 5 GPO1 (hiz) "General purpose output.", 8 FMI (in) "FM/WB RF inputs. FMI should be connected to the antenna trace.", 9 RFGND (power) "RF ground. Connect to ground plane on PCB.", 12 AMI (in) "AM RF input. AMI should be connected to the AM antenna.", 13 GND (power) "Ground. Connect to ground plane on PCB.", 14 GND (power) "Ground. Connect to ground plane on PCB.", 15 ~{RST} (in) "Device reset (active low) input.", 16 ~{SEN} (in) "Serial enable input (active low).", 17 SCLK (in) "Serial clock input.", 18 SDIO (io) "Serial data input/output.", 19 RCLK (in) "External reference oscillator input.", 20 VIO (power) "I/O supply voltage.", 21 VDD (power) "Supply voltage. May be connected directly to battery.", 22 DBYP "Dedicated bypass for VDD and VIO.", 23 ROUT (out) "Right audio line output in analog output mode.", 24 LOUT (out) "Left audio line output in analog output mode."
part B pins: 6 NC "No connect. Leave floating.", 7 NC "No connect. Leave floating.", 10 NC "Unused. Tie these pins to GND.", 11 NC "Unused. Tie these pins to GND."

## Si4737-C40-GM
designator U?
Broadcast AM / FM Radio Receiver, -20 to 85 degC, 20-pin QFN, Tray; Manufacturer: Silicon Labs; PartNumber: Si4737-C40-GM; RDS Support: TRUE; Sub-Family: AM/FM, Shortwave, Longwave, Weather Band Receivers; DatasheetVersion: Rev. 1.0; PackageReference: QFN-20; PackageDescription: 20-Pin Quad-Flat No-Leads Package, Body 3 x 3 mm, Pitch 0.5 mm; Supplier 1: Digi-Key; Supplier Part Number 1: SI4737-C40-GM-ND; Supplier 2: Mouser; Supplier Part Number 2: 634-SI4737-C40-GM; Mounting Technology: Surface Mount; Code_IPC: J-STD-020; ComponentLink1Description: Manufacturer URL; ComponentLink1URL: http://www.silabs.com/; ComponentLink2Description: Datasheet; ComponentLink2URL: http://www.silabs.com/Support Documents/TechnicalDocs/Si4736-37-38-39-C40.pdf; ComponentLink3Description: Package Specification; ComponentLink3URL: http://www.silabs.com/Support%20Documents/TechnicalDocs/C8051F99x.pdf
footprint SLAB-QFN-20-1700x1700TP_V (QFN, 20-Leads, Body 3x3mm, Pitch 0.5mm, Thermal Pad 1.7x1.7mm)
pins: 1 NC "No Connect. Leave floating.", 2 FMI (in) "FM/WB RF inputs. FMI should be connected to the antenna trace.", 3 RFGND (power) "RF ground. Connect to ground plane on PCB.", 4 AMI (in) "AM RF input. AMI should be connected to the AM antenna.", 5 ~{RST} (in) "Device reset (active low) input.", 6 ~{SEN} (in) "Serial enable input (active low).", 7 SCLK (in) "Serial clock input.", 8 SDIO (io) "Serial data input/output.", 9 RCLK (in) "External reference oscillator input.", 10 VIO (power) "I/O supply voltage.", 11 VDD (power) "Supply voltage. May be connected directly to battery.", 12 GND (power) "Ground. Connect to ground plane on PCB.", 13 ROUT (out) "Right audio line output in analog output mode.", 14 LOUT (out) "Left audio line output in analog output mode.", 15 DOUT (out) "Digital output data in digital output mode.", 16 DFS (in) "Digital frame synchronization input in digital output mode.", 17 GPO3/DCLK (io) "General purpose output, crystal oscillator, or digital bit synchronous clock input in digital output mode.", 18 GPO2/~{INT} (hiz) "General purpose output or interrupt pin.", 19 GPO1 (hiz) "General purpose output.", 20 NC "No Connect. Leave floating.", 21 GND (power) "Ground. Connect to ground plane on PCB."

## Si4737-C40-GU
designator U?
Broadcast AM / FM Radio Receiver, -20 to 85 degC, 24-pin SOP, Tray; Manufacturer: Silicon Labs; PartNumber: Si4737-C40-GU; RDS Support: TRUE; Sub-Family: AM/FM, Shortwave, Longwave, Weather Band Receivers; DatasheetVersion: Rev. 1.0; PackageReference: SSOP-24; PackageDescription: 24-Pin Shrink Small-Outline Package, Body 8.65 x 3.9 mm, Pitch 0.635 mm; Supplier 1: Digi-Key; Supplier Part Number 1: SI4737-C40-GU-ND; Supplier 2: Mouser; Supplier Part Number 2: 634-SI4737-C40-GU; Mounting Technology: Surface Mount; Code_JEDEC: MO-137; Code_IPC: J-STD-020; ComponentLink1Description: Manufacturer URL; ComponentLink1URL: http://www.silabs.com/; ComponentLink2Description: Datasheet; ComponentLink2URL: http://www.silabs.com/Support%20Documents/TechnicalDocs/Si4736-37-38-39-C40.pdf; ComponentLink3Description: Package Specification; ComponentLink3URL: http://www.silabs.com/Support%20Documents/TechnicalDocs/Si4704-05-D60.pdf
footprint SLAB-SSOP-24_N (SOP, 24-Leads, Body 8.7x3.9mm, Pitch 0.635mm, IPC Medium Density)
footprint SLAB-SSOP-24_L (SOP, 24-Leads, Body 8.7x3.9mm, Pitch 0.635mm, IPC High Density)
footprint SLAB-SSOP-24_M (SOP, 24-Leads, Body 8.7x3.9mm, Pitch 0.635mm, IPC Low Density)
part A pins: 1 DOUT (out) "Digital output data in digital output mode.", 2 DFS (in) "Digital frame synchronization input in digital output mode.", 3 GPO3/DCLK (io) "General purpose output, crystal oscillator, or digital bit synchronous clock input in digital output mode.", 4 GPO2/~{INT} (hiz) "General purpose output or interrupt pin.", 5 GPO1 (hiz) "General purpose output.", 8 FMI (in) "FM/WB RF inputs. FMI should be connected to the antenna trace.", 9 RFGND (power) "RF ground. Connect to ground plane on PCB.", 12 AMI (in) "AM RF input. AMI should be connected to the AM antenna.", 13 GND (power) "Ground. Connect to ground plane on PCB.", 14 GND (power) "Ground. Connect to ground plane on PCB.", 15 ~{RST} (in) "Device reset (active low) input.", 16 ~{SEN} (in) "Serial enable input (active low).", 17 SCLK (in) "Serial clock input.", 18 SDIO (io) "Serial data input/output.", 19 RCLK (in) "External reference oscillator input.", 20 VIO (power) "I/O supply voltage.", 21 VDD (power) "Supply voltage. May be connected directly to battery.", 22 DBYP "Dedicated bypass for VDD and VIO.", 23 ROUT (out) "Right audio line output in analog output mode.", 24 LOUT (out) "Left audio line output in analog output mode."
part B pins: 6 NC "No connect. Leave floating.", 7 NC "No connect. Leave floating.", 10 NC "Unused. Tie these pins to GND.", 11 NC "Unused. Tie these pins to GND."

## Si4738-C40-GM
designator U?
Broadcast AM / FM Radio Receiver, -20 to 85 degC, 20-pin QFN, Tray; Manufacturer: Silicon Labs; PartNumber: Si4738-C40-GM; RDS Support: FALSE; Sub-Family: AM/FM, Shortwave, Longwave, Weather Band Receivers; DatasheetVersion: Rev. 1.0; PackageReference: QFN-20; PackageDescription: 20-Pin Quad-Flat No-Leads Package, Body 3 x 3 mm, Pitch 0.5 mm; Supplier 1: Digi-Key; Supplier Part Number 1: SI4738-C40-GM-ND; Supplier 2: Mouser; Supplier Part Number 2: 634-SI4738-C40-GM; Mounting Technology: Surface Mount; Code_IPC: J-STD-020; ComponentLink1Description: Manufacturer URL; ComponentLink1URL: http://www.silabs.com/; ComponentLink2Description: Datasheet; ComponentLink2URL: http://www.silabs.com/Support Documents/TechnicalDocs/Si4736-37-38-39-C40.pdf; ComponentLink3Description: Package Specification; ComponentLink3URL: http://www.silabs.com/Support%20Documents/TechnicalDocs/C8051F99x.pdf
footprint SLAB-QFN-20-1700x1700TP_V (QFN, 20-Leads, Body 3x3mm, Pitch 0.5mm, Thermal Pad 1.7x1.7mm)
pins: 1 NC "No Connect. Leave floating.", 2 FMI (in) "FM/WB RF inputs. FMI should be connected to the antenna trace.", 3 RFGND (power) "RF ground. Connect to ground plane on PCB.", 4 AMI (in) "AM RF input. AMI should be connected to the AM antenna.", 5 ~{RST} (in) "Device reset (active low) input.", 6 ~{SEN} (in) "Serial enable input (active low).", 7 SCLK (in) "Serial clock input.", 8 SDIO (io) "Serial data input/output.", 9 RCLK (in) "External reference oscillator input.", 10 VIO (power) "I/O supply voltage.", 11 VDD (power) "Supply voltage. May be connected directly to battery.", 12 GND (power) "Ground. Connect to ground plane on PCB.", 13 ROUT (out) "Right audio line output in analog output mode.", 14 LOUT (out) "Left audio line output in analog output mode.", 15 DOUT (out) "Digital output data in digital output mode.", 16 DFS (in) "Digital frame synchronization input in digital output mode.", 17 GPO3/DCLK (io) "General purpose output, crystal oscillator, or digital bit synchronous clock input in digital output mode.", 18 GPO2/~{INT} (hiz) "General purpose output or interrupt pin.", 19 GPO1 (hiz) "General purpose output.", 20 NC "No Connect. Leave floating.", 21 GND (power) "Ground. Connect to ground plane on PCB."